# Altium footprint library myPcbLib1.PcbLib: 151 footprints (part 7 of 10)
Each footprint in its own frame and in the unit in brackets; x right, y up, seen from the top. Pads: shape width x height; smd on the part's side, far side on the other; paste and mask are expansions set on the pad; w line width, h text height; cw(c..) or ccw(c..) is an arc to the next point about the centre after c.
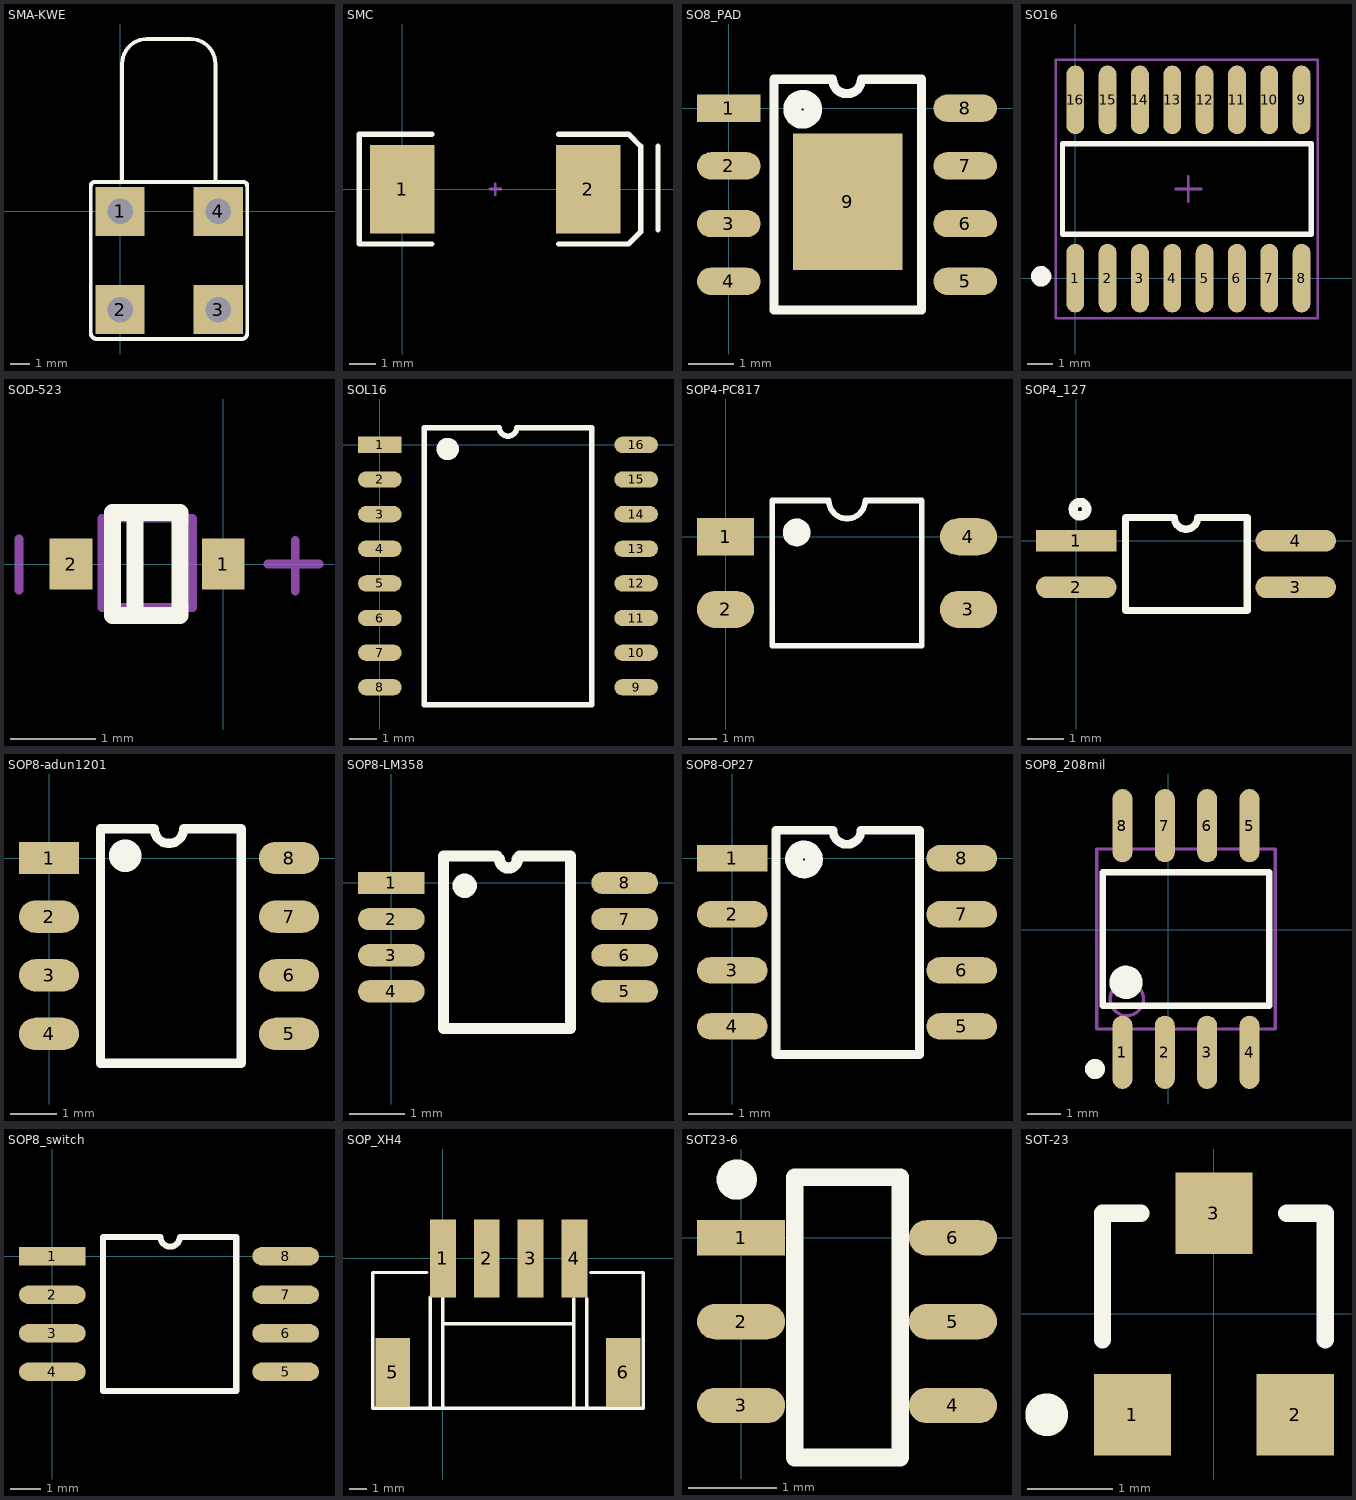
[diagram p6: the footprints below, top view; thin cyan lines are the x and y axes]

## SMA-KWE [mm]
pads (4):
  rect 2.5x2.5 hole 1.3: 1(0,0) 2(0,-5) 3(5,-5) 4(5,0)
Top Overlay:
  lines w0.2: 0.051,1.499 ccw(c0.051,1.549) 0.102,1.549 ; 0.102,1.499 0.102,7.518 cw(c1.372,7.518) 1.372,8.788 3.581,8.788 cw(c3.581,7.518) 4.851,7.518 4.851,1.499 ; -1.499,-6.198 ccw(c-1.194,-6.198) -1.194,-6.502 6.198,-6.502 ccw(c6.198,-6.223) 6.477,-6.223 6.477,1.143 6.477,1.295 ccw(c6.274,1.295) 6.274,1.499 -1.295,1.499 ccw(c-1.295,1.295) -1.499,1.295 -1.499,-6.198

## SMC [mm] "DO-214-AB/SMC; 2 C-Bend Leads; Body 7.9 x 5.9 mm, inc. leads (LxW)"
pads (2):
  rect 2.4x3.3 smd: 1(0,0) 2(6.95,0)
Top Overlay:
  lines w0.2: 1.1,-2.05 -1.6,-2.05 -1.6,2.05 1.1,2.05 ; 5.85,-2.05 8.45,-2.05 8.9,-1.6 8.9,1.6 8.45,2.055 ; 5.85,2.05 8.45,2.05 ; 9.55,-1.524 9.55,1.6
Mechanical 1:
  lines w0.1: 3.275,0 3.675,0 ; 3.475,-0.2 3.475,0.2

## SO8_PAD [mm]
pads (9):
  rect 1.4x0.6 smd: 1(0,0)
  oval 1.4x0.6 smd: 2(0,-1.27) 3(0,-2.54) 4(0,-3.81) 5(5.2,-3.81) 6(5.2,-2.54) 7(5.2,-1.27) 8(5.2,0)
  rect 2.4x3 smd: 9(2.616,-2.057)
Top Overlay:
  circle w0.4: c1.626,-0.025 r0.227
  lines w0.2: 0.991,-4.445 4.242,-4.445 4.242,0.635 2.917,0.635 cw(c2.6,0.635) 2.282,0.635 0.991,0.635 0.991,-4.445

## SO16 [mm]
pads (16):
  oval 0.7x2.7 smd: 1(0,0) 2(1.27,0) 3(2.54,0) 4(3.81,0) 5(5.08,0) 6(6.35,0) 7(7.62,0) 8(8.89,0) 9(8.89,7) 10(7.62,7) 11(6.35,7) 12(5.08,7) 13(3.81,7) 14(2.54,7) 15(1.27,7) 16(0,7)
Top Overlay:
  circle w0.4: c-1.343,0.071 r0.2
  lines w0.2: -0.506,1.722 9.269,1.722 9.269,5.278 -0.506,5.278 -0.506,1.722
Mechanical 15:
  lines w0.1: 3.945,3.5 4.945,3.5 ; 4.445,3 4.445,4 ; -0.762,-1.58 9.525,-1.58 9.525,8.58 -0.762,8.58 -0.762,-1.58

## SOD-523 [mm]
pads (2):
  rect 0.5x0.6 smd: 1(0,0) 2(-1.78,0)
Top Overlay:
  lines w0.2: -1.031,-0.6 -1.031,0.6 ; -1.295,-0.6 -0.508,-0.6 -0.508,0.6 -1.295,0.6 -1.295,-0.6
Mechanical 13:
  lines w0.1: -1.422,-0.508 -1.422,0.533 -0.356,0.533 -0.356,-0.508 -1.422,-0.508
Mechanical 15:
  lines w0.1: -2.388,-0.305 -2.388,0.295 ; 0.518,0 1.118,0 ; 0.838,-0.321 0.838,0.279

## SOL16 [mm]
pads (16):
  rect 1.6x0.6 smd: 1(0,0)
  oval 1.6x0.6 smd: 2(0,-1.27) 3(0,-2.54) 4(0,-3.81) 5(0,-5.08) 6(0,-6.35) 7(0,-7.62) 8(0,-8.89) 9(9.4,-8.89) 10(9.4,-7.62) 11(9.4,-6.35) 12(9.4,-5.08) 13(9.4,-3.81) 14(9.4,-2.54) 15(9.4,-1.27) 16(9.4,0)
Top Overlay:
  circle w0.6: c2.489,-0.152 r0.108
  lines w0.2: 1.635,-9.525 1.635,0.635 4.382,0.635 ccw(c4.7,0.635) 5.017,0.635 7.765,0.635 7.765,-9.525 1.635,-9.525

## SOP4-PC817 [mm]
pads (4):
  rect 2x1.3 smd: 1(0,0)
  oval 2x1.3 smd: 2(0,-2.54) 3(8.5,-2.54) 4(8.5,0)
Top Overlay:
  circle w0.6: c2.489,0.152 r0.185
  lines w0.2: 1.635,-3.81 1.635,1.27 3.615,1.27 ccw(c4.25,1.27) 4.885,1.27 6.865,1.27 6.865,-3.81 1.635,-3.81

## SOP4_127 [mm]
pads (4):
  rect 2.2x0.6 smd: 1(0,0)
  oval 2.2x0.6 smd: 2(0,-1.27) 3(6,-1.27) 4(6,0)
Top Overlay:
  circle w0.254: c0.102,0.864 r0.185
  lines w0.2: 1.346,-1.905 1.346,0.635 2.682,0.635 ccw(c3,0.635) 3.317,0.635 4.674,0.635 4.674,-1.905 1.346,-1.905

## SOP8-adun1201 [mm]
pads (8):
  rect 1.3x0.7 smd: 1(0,0)
  oval 1.3x0.7 smd: 2(0,-1.27) 3(0,-2.54) 4(0,-3.81) 5(5.2,-3.81) 6(5.2,-2.54) 7(5.2,-1.27) 8(5.2,0)
Top Overlay:
  circle w0.6: c1.651,0.051 r0.051
  lines w0.2: 1.118,-4.445 1.118,0.635 2.282,0.635 ccw(c2.6,0.635) 2.917,0.635 4.166,0.635 4.166,-4.445 1.118,-4.445

## SOP8-LM358 [mm]
pads (8):
  rect 1.2x0.4 smd: 1(0,0)
  oval 1.2x0.4 smd: 2(0,-0.65) 3(0,-1.3) 4(0,-1.95) 5(4.2,-1.95) 6(4.2,-1.3) 7(4.2,-0.65) 8(4.2,0)
Top Overlay:
  circle w0.254: c1.321,-0.051 r0.092
  lines w0.2: 1.905,0.483 0.94,0.483 0.94,-2.616 3.226,-2.616 3.226,0.483 2.311,0.483 2.262,0.434 ; 1.946,0.432 ccw(c2.108,0.432) 2.271,0.432

## SOP8-OP27 [mm]
pads (8):
  rect 1.6x0.6 smd: 1(0,0)
  oval 1.6x0.6 smd: 2(0,-1.27) 3(0,-2.54) 4(0,-3.81) 5(5.2,-3.81) 6(5.2,-2.54) 7(5.2,-1.27) 8(5.2,0)
Top Overlay:
  circle w0.4: c1.626,-0.025 r0.227
  lines w0.2: 0.991,-4.445 0.991,0.635 2.282,0.635 ccw(c2.6,0.635) 2.917,0.635 4.242,0.635 4.242,-4.445 0.991,-4.445

## SOP8_208mil [mm]
pads (8):
  oval 0.6x2.2 smd: 1(-1.372,-3.683) 2(-0.102,-3.683) 3(1.168,-3.683) 4(2.438,-3.683) 5(2.438,3.117) 6(1.168,3.117) 7(-0.102,3.117) 8(-1.372,3.117)
Top Overlay:
  circle w0.5: c-1.267,-1.583 r0.25
  circle w0.3: c-2.197,-4.183 r0.15
  lines w0.2: -1.967,-2.283 3.033,-2.283 3.033,1.717 -1.967,1.717 -1.967,-2.283
Mechanical 13:
  circle w0.1: c-1.242,-2.083 r0.5
  lines w0.1: -2.142,-2.983 3.208,-2.983 3.208,2.417 -2.142,2.417 -2.142,-2.983

## SOP8_switch [mm]
pads (8):
  rect 2.2x0.6 smd: 1(0,0)
  oval 2.2x0.6 smd: 2(0,-1.27) 3(0,-2.54) 4(0,-3.81) 5(7.695,-3.81) 6(7.695,-2.54) 7(7.695,-1.27) 8(7.695,0)
Top Overlay:
  lines w0.2: 1.676,-4.445 1.676,0.635 3.569,0.635 ccw(c3.886,0.635) 4.204,0.635 6.065,0.635 6.065,-4.445 1.676,-4.445

## SOP_XH4 [mm]
pads (6):
  rect 1.5x4.5 smd: 1(0,0) 2(2.54,0) 3(5.08,0) 4(7.62,0)
  rect 2x4 smd: 5(-2.921,-6.604) 6(10.465,-6.604)
Top Overlay:
  lines w0.2: -0.94,-0.813 -4.064,-0.813 -4.064,-8.687 -2.54,-8.687 0,-8.687 ; -0.737,-8.687 -0.737,-2.261 ; 0,-2.261 0,-8.687 ; 0.076,-3.785 7.533,-3.785 ; 7.595,-8.687 7.595,-2.337 ; 8.331,-8.687 8.331,-2.337 ; 8.56,-0.813 11.608,-0.813 11.608,-8.687 11.028,-8.687 0,-8.687

## SOT23-6 [mm]
pads (6):
  rect 1x0.4 smd: 1(0,0)
  oval 1x0.4 smd: 2(0,-0.95) 3(0,-1.9) 4(2.4,-1.9) 5(2.4,-0.95) 6(2.4,0)
Top Overlay:
  circle w0.254: c-0.051,0.66 r0.102
  lines w0.2: 0.61,-2.489 0.61,0.686 1.803,0.686 1.803,-2.489 0.61,-2.489

## SOT-23 [mm]
pads (3):
  rect 0.9x0.95 smd: 1(-0.95,-1.175) 2(0.95,-1.175) 3(0,1.175)
Top Overlay:
  circle w0.25: c-1.95,-1.175 r0.125
  lines w0.2: -1.3,-0.3 -1.3,1.175 -0.85,1.175 ; 0.85,1.175 1.3,1.175 1.3,-0.3